# EAGLE library part MOTOR_DRIVER (library MOTOR_DRIVER v2)
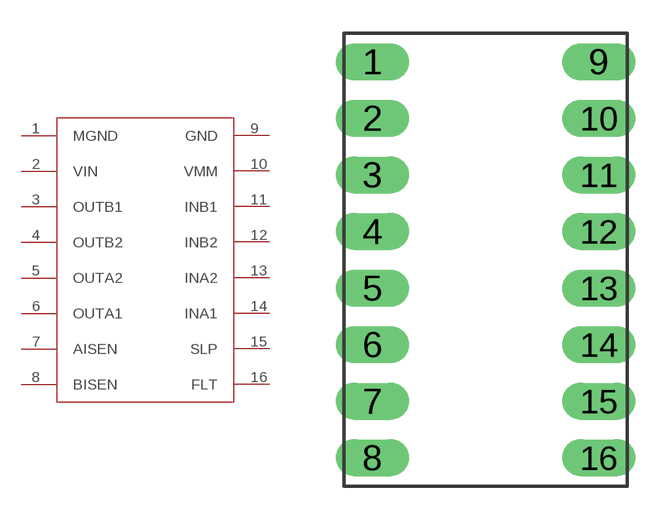
[diagram p0: symbol with the pads of MOTOR_DRIVER; footprint MOTOR_DRIVER]

Designator prefix DRV

## MOTOR_DRIVER  [MOTOR_DRIVER]
1  MGND  pwr
2  VIN  pwr
3  OUTB1  out
4  OUTB2  out
5  OUTA2  out
6  OUTA1  out
7  AISEN
8  BISEN
9  GND  pwr
10  VMM  pwr
11  INB1  in
12  INB2  in
13  INA2  in
14  INA1  in
15  SLP
16  FLT

## Footprint MOTOR_DRIVER (pad centres in mm)
drill 1.016 pad 1.651 long: 1 -5.08,8.89; 2 -5.08,6.35; 3 -5.08,3.81; 4 -5.08,1.27; 5 -5.08,-1.27; 6 -5.08,-3.81; 7 -5.08,-6.35; 8 -5.08,-8.89; 9 5.08,8.89; 10 5.08,6.35; 11 5.08,3.81; 12 5.08,1.27; 13 5.08,-1.27; 14 5.08,-3.81; 15 5.08,-6.35; 16 5.08,-8.89